# Altium integrated library Integrated_Library1.IntLib: 4 symbols
Pins are listed as number, name and electrical type; pins without a type are passive.

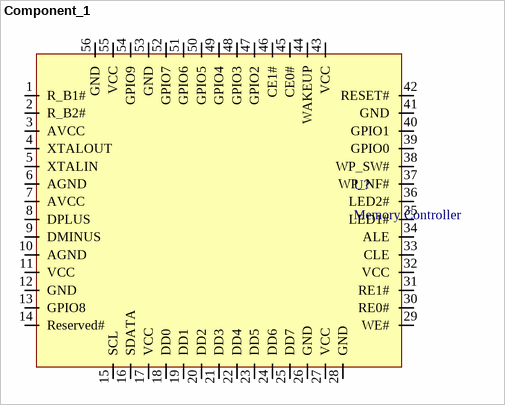
[diagram p0: symbol Component_1]

## Component_1
designator U?, comment Memory Controller
footprint QFN50P800X800X100-56N (QFN, 56-Leads, Body 8,0x8,0mm (max), Pitch 0,50mm, IPC Medium Density)
pins: 1 R_B1#, 2 R_B2#, 3 AVCC, 4 XTALOUT, 5 XTALIN, 6 AGND, 7 AVCC, 8 DPLUS, 9 DMINUS, 10 AGND, 11 VCC, 12 GND, 13 GPIO8, 14 Reserved#, 15 SCL, 16 SDATA, 17 VCC, 18 DD0, 19 DD1, 20 DD2, 21 DD3, 22 DD4, 23 DD5, 24 DD6, 25 DD7, 26 GND, 27 VCC, 28 GND, 29 WE#, 30 RE0#, 31 RE1#, 32 VCC, 33 CLE, 34 ALE, 35 LED1#, 36 LED2#, 37 WP_NF#, 38 WP_SW#, 39 GPIO0, 40 GPIO1, 41 GND, 42 RESET#, 43 VCC, 44 WAKEUP, 45 CE0#, 46 CE1#, 47 GPIO2, 48 GPIO3, 49 GPIO4, 50 GPIO5, 51 GPIO6, 52 GPIO7, 53 GND, 54 GPIO9, 55 VCC, 56 GND


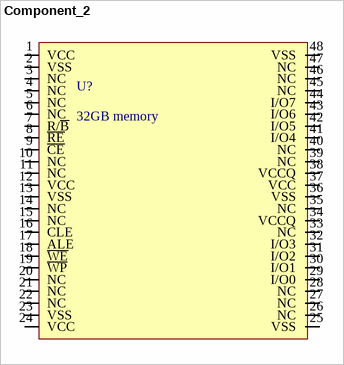
[diagram p1: symbol Component_2]

## Component_2
designator U?, comment 32GB memory
footprint TSSOP50P2000X120-48N (TSSOP, 48-Leads, Body 12,4x18,5mm (max), Pitch 0,50mm, IPC Medium Density)
pins: 1 VCC, 2 VSS, 3 NC, 4 NC, 5 NC, 6 NC, 7 R/~{B}, 8 ~{RE}, 9 ~{CE}, 10 NC, 11 NC, 12 VCC, 13 VSS, 14 NC, 15 NC, 16 CLE, 17 ALE, 18 ~{WE}, 19 ~{WP}, 20 NC, 21 NC, 22 NC, 23 VSS, 24 VCC, 25 VSS, 26 NC, 27 NC, 28 NC, 29 I/O0, 30 I/O1, 31 I/O2, 32 I/O3, 33 NC, 34 VCCQ, 35 NC, 36 VSS, 37 VCC, 38 VCCQ, 39 NC, 40 NC, 41 I/O4, 42 I/O5, 43 I/O6, 44 I/O7, 45 NC, 46 NC, 47 NC, 48 VSS


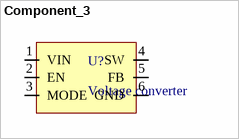
[diagram p2: symbol Component_3]

## Component_3
designator U?, comment Voltage converter
footprint USON
pins: 1 VIN, 2 EN, 3 MODE, 4 SW, 5 FB, 6 GND


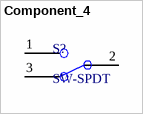
[diagram p3: symbol Component_4]

## Component_4
designator S?, comment SW-SPDT
footprint SW-SPDT
pins: 1, 2, 3